# EAGLE library part LM2736 (library X893)
http://www.ti.com/lit/ds/symlink/lm2736.pdf
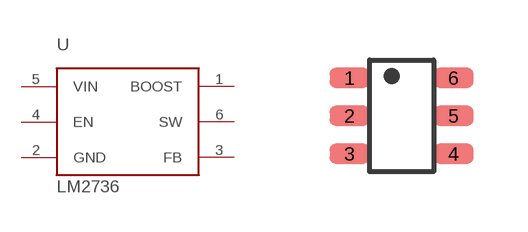
[diagram p146: symbol with the pads of SOT23-6; footprint SOT23-6]

Designator prefix U

## LM2736  [SOT23-6]
1  BOOST  pas
2  GND  sup
3  FB  pas
4  EN  pas
5  VIN  pas
6  SW  pas

## Footprint SOT23-6 (pad centres in mm)
smd 1 x 0.5: 1 -1.3,0.95; 2 -1.3,0; 3 -1.3,-0.95; 4 1.3,-0.95; 5 1.3,0; 6 1.3,0.95